# Altium footprint library LD39050PUR.PcbLib: 3 footprints
Each footprint in its own frame and in the unit in brackets; x right, y up, seen from the top. Pads: shape width x height; smd on the part's side, far side on the other; paste and mask are expansions set on the pad; w line width, h text height; cw(c..) or ccw(c..) is an arc to the next point about the centre after c.
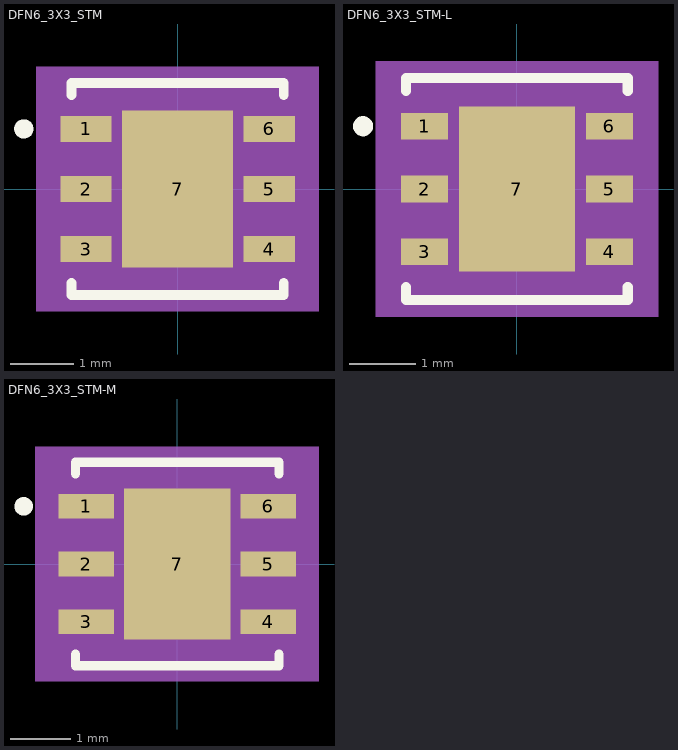
[diagram p0: the footprints below, top view; thin cyan lines are the x and y axes]

## DFN6_3X3_STM [mil]
pads (7):
  rect 32x16 smd paste+0 mask+0: 1(-57,37.4) 2(-57,0) 3(-57,-37.4) 4(57,-37.4) 5(57,0) 6(57,37.4)
  rect 69x98 smd paste+0 mask+0: 7(0,0)
Top Overlay:
  circle w6: c-95.7,37.4 r3
  lines w6: -66,-58.5 -66,-66 66,-66 66,-58.5 ; -66,58.5 -66,66 66,66 66,58.5
Mechanical 5:
  region: 88,-76 -88,-76 -88,76 88,76
Mechanical 13:
  lines w0: -12,61 ccw(c0,61) 12,61
  lines w1: -61,-61 61,-61 61,61 -61,61 -61,-61
3D body: height 59.06, standoff 0, extent -62.5,-62.5 62.5,62.5

## DFN6_3X3_STM-L [mil]
pads (7):
  rect 28x16 smd paste+0 mask+0: 1(-55,37.4) 2(-55,0) 3(-55,-37.4) 4(55,-37.4) 5(55,0) 6(55,37.4)
  rect 69x98 smd paste+0 mask+0: 7(0,0)
Top Overlay:
  circle w6: c-91.7,37.4 r3
  lines w6: -66,-58.5 -66,-66 66,-66 66,-58.5 ; -66,58.5 -66,66 66,66 66,58.5
Mechanical 5:
  region: 84,-76 -84,-76 -84,76 84,76
Mechanical 13:
  circle w6: c-41,37.4 r3
  lines w0: -12,61 ccw(c0,61) 12,61
  lines w1: -61,-61 61,-61 61,61 -61,61 -61,-61
3D body: height 10, standoff 0, extent 0,0 10,10

## DFN6_3X3_STM-M [mil]
pads (7):
  rect 36x16 smd paste+0 mask+0: 1(-59,37.4) 2(-59,0) 3(-59,-37.4) 4(59,-37.4) 5(59,0) 6(59,37.4)
  rect 69x98 smd paste+0 mask+0: 7(0,0)
Top Overlay:
  circle w6: c-99.7,37.4 r3
  lines w6: -66,-58.5 -66,-66 66,-66 66,-58.5 ; -66,58.5 -66,66 66,66 66,58.5
Mechanical 5:
  region: 92,-76 -92,-76 -92,76 92,76
Mechanical 13:
  circle w6: c-41,37.4 r3
  lines w0: -12,61 ccw(c0,61) 12,61
  lines w1: -61,-61 61,-61 61,61 -61,61 -61,-61
3D body: height 10, standoff 0, extent 0,0 10,10